# Altium footprint library 130020900#NIP_PD_电路板印制板.PcbLib: 105 footprints (part 7 of 7)
Each footprint in its own frame and in the unit in brackets; x right, y up, seen from the top. Pads: shape width x height; smd on the part's side, far side on the other; paste and mask are expansions set on the pad; w line width, h text height; cw(c..) or ccw(c..) is an arc to the next point about the centre after c.
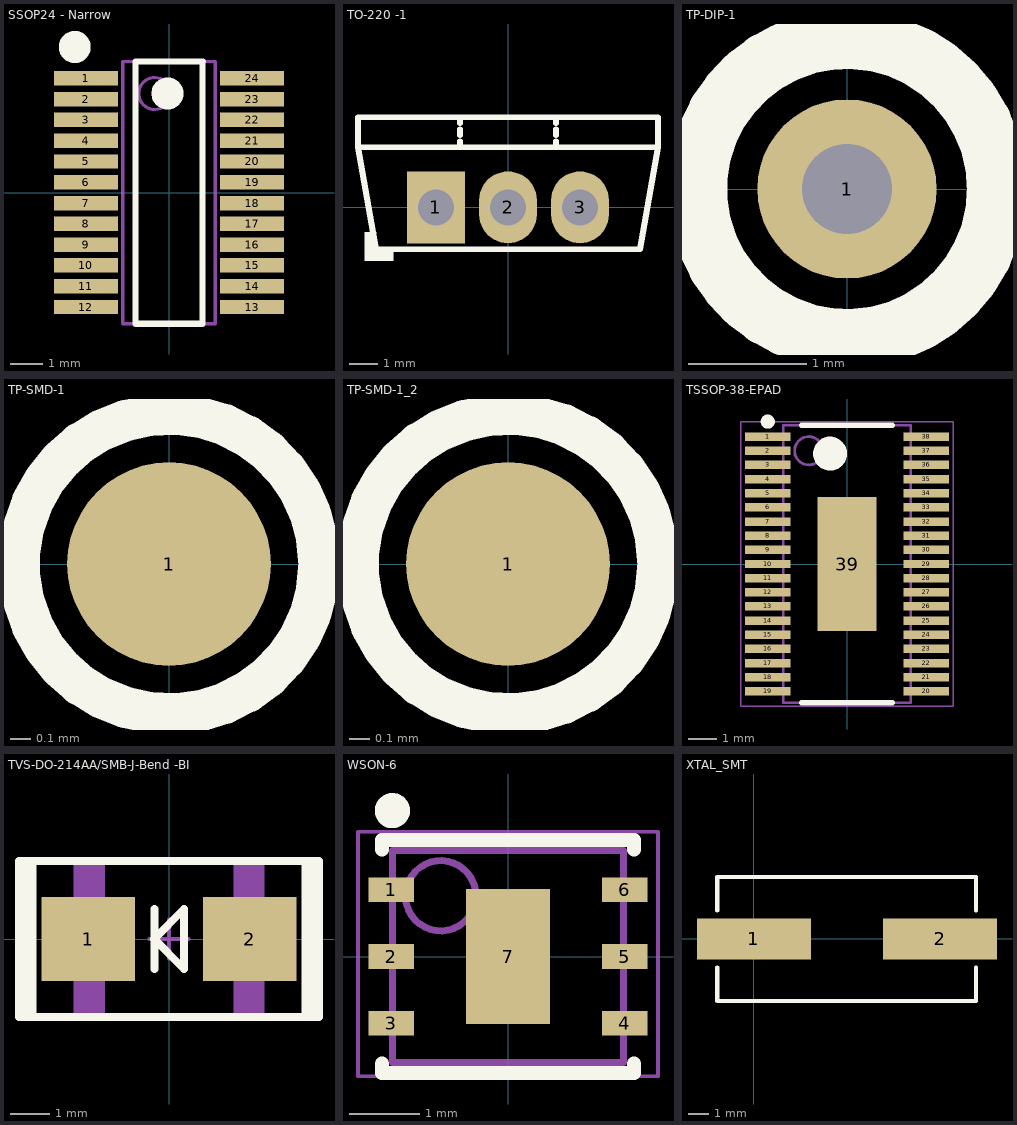
[diagram p6: the footprints below, top view; thin cyan lines are the x and y axes]

## SSOP24 - Narrow [mm]
pads (24):
  rect 2x0.45 smd: 1(-2.596,3.575) 2(-2.596,2.925) 3(-2.596,2.275) 4(-2.596,1.625) 5(-2.596,0.975) 6(-2.596,0.325) 7(-2.596,-0.325) 8(-2.596,-0.975) 9(-2.596,-1.625) 10(-2.596,-2.275) 11(-2.596,-2.925) 12(-2.596,-3.575) 13(2.596,-3.575) 14(2.596,-2.925) 15(2.596,-2.275) 16(2.596,-1.625) 17(2.596,-0.975) 18(2.596,-0.325) 19(2.596,0.325) 20(2.596,0.975) 21(2.596,1.625) 22(2.596,2.275) 23(2.596,2.925) 24(2.596,3.575)
Top Overlay:
  circle w0.5: c-2.946,4.554 r0.25
  circle w0.5: c-0.046,3.1 r0.25
  lines w0.2: 1.047,4.1 1.047,-4.1 -1.047,-4.1 -1.047,4.1 1.061,4.1
Mechanical 15:
  circle w0.1: c-0.446,3.1 r0.5
  lines w0.1: 1.442,4.1 -1.446,4.1 -1.446,-4.1 1.446,-4.1 1.446,4.1

## TO-220 -1 [mil]
pads (3):
  rect 80x100 hole 50: 1(-100,0)
  oval 80x100 hole 50: 2(0,0) 3(100,0)
Top Overlay:
  region: -199.08,-34.71 -199.08,-74.08 -159.71,-74.08 -159.71,-58.33 -183.33,-58.33 -183.33,-34.71
  lines w8: -66.67,83.33 -66.67,91.67 ; -66.67,100 -66.67,108.33 ; -66.67,116.67 -66.67,125 ; 66.67,83.33 66.67,91.67 ; 66.67,100 66.67,108.33 ; 66.67,116.67 66.67,125 ; -208.33,83.33 -208.33,125 208.33,125 208.33,83.33 ; -208.33,83.33 -183.33,-58.33 183.33,-58.33 208.33,83.33 ; -208.33,83.33 208.33,83.33

## TP-DIP-1 [mil]
pads (1):
  round 60 hole 30: 1(0,0)
Top Overlay:
  circle w20: c0,0 r50.2

## TP-SMD-1 [mm]
pads (1):
  round 1 smd: 1(0,0)
Top Overlay:
  circle w0.203: c0,0 r0.737

## TP-SMD-1_2 [mm]
pads (1):
  round 1 smd: 1(0,0)
Top Overlay:
  circle w0.203: c0,0 r0.737

## TSSOP-38-EPAD [mm] "TSSOP, 38-Leads, Body 9.70x4.40mm, Pitch 0.50mm, Thermal Pad 4.75.2x2.74.2mm, IPC Medium Density"
height 1.2
pads (39):
  rect 1.6x0.3 smd: 1(-2.8,4.5) 2(-2.8,4) 3(-2.8,3.5) 4(-2.8,3) 5(-2.8,2.5) 6(-2.8,2) 7(-2.8,1.5) 8(-2.8,1) 9(-2.8,0.5) 10(-2.8,0) 11(-2.8,-0.5) 12(-2.8,-1) 13(-2.8,-1.5) 14(-2.8,-2) 15(-2.8,-2.5) 16(-2.8,-3) 17(-2.8,-3.5) 18(-2.8,-4) 19(-2.8,-4.5) 20(2.8,-4.5) 21(2.8,-4) 22(2.8,-3.5) 23(2.8,-3) 24(2.8,-2.5) 25(2.8,-2) 26(2.8,-1.5) 27(2.8,-1) 28(2.8,-0.5) 29(2.8,0) 30(2.8,0.5) 31(2.8,1) 32(2.8,1.5) 33(2.8,2) 34(2.8,2.5) 35(2.8,3) 36(2.8,3.5) 37(2.8,4) 38(2.8,4.5)
  rect 2.1x4.75 smd: 39(0,0)
Top Overlay:
  circle w0.6: c-0.6,3.9 r0.3
  circle w0.25: c-2.8,5.029 r0.125
  lines w0.203: -1.6,-4.9 1.6,-4.9 ; -1.6,4.9 1.6,4.9
Mechanical 13:
  circle w0.1: c-1.35,4 r0.5
  lines w0.1: -2.25,-4.9 2.25,-4.9 2.25,4.9 -2.25,4.9 -2.25,-4.9
Mechanical 15:
  lines w0.05: -3.759,-5.029 3.759,-5.029 3.759,5.029 -3.759,5.029 -3.759,-5.029
  lines w0.1: -0.5,0 0.5,0 ; 0,-0.5 0,0.5
3D body: height 1.2, standoff 0.05, extent -2.25,-4.9 2.25,4.9

## TVS-DO-214AA/SMB-J-Bend -BI [mm] "Molded Diode, 2-Leads, Body 5.34x3.62mm, IPC Medium Density"
height 2.62
pads (2):
  rect 2.4x2.15 smd: 1(-2.075,0) 2(2.075,0)
Top Overlay:
  region: 3.5,2 3.85,2 3.85,-2 3.5,-2
  region: -3.85,2 -3.5,2 -3.5,-2 -3.85,-2
  lines w0.203: -3.5,-2 -3.5,2 ; -0.375,-0.765 -0.375,0.765 ; 3.5,-2 3.5,2 ; -3.85,-2 -3.85,2 3.85,2 3.85,-2 -3.85,-2 ; -0.38,0 0.38,0.765 0.38,-0.765 -0.38,0
Mechanical 13:
  rectangle: -2.4,-1.97 -1.648,1.97
  rectangle: 1.651,-1.97 2.403,1.97
  lines w0.1: -2.4,-1.97 -2.4,1.97 2.4,1.97 2.4,-1.97 -2.4,-1.97
Mechanical 15:
  lines w0.1: -0.5,0 0.5,0 ; 0,-0.5 0,0.5
3D body: height 2.62, standoff 0, extent -2.4,-1.97 2.4,1.97

## WSON-6 [mm] "WSON, 6-Leads, Body 3.24x2.92mm, Pitch 0.95mm, Thermal Pad 2.27x0.00mm, IPC Medium Density"
height 0.8
pads (7):
  rect 0.65x0.35 smd: 1(-1.66,0.95) 2(-1.66,0) 3(-1.66,-0.95) 4(1.66,-0.95) 5(1.66,0) 6(1.66,0.95)
  rect 1.2x1.92 smd: 7(0,0)
Top Overlay:
  circle w0.25: c-1.645,2.075 r0.125
  lines w0.2: -1.795,-1.525 -1.795,-1.66 0.152,-1.66 ; -1.795,1.525 -1.795,1.66 0.102,1.66 ; 0.1,-1.66 1.795,-1.66 1.795,-1.525 ; 0.1,1.66 1.795,1.66 1.795,1.525
Mechanical 13:
  circle w0.1: c-0.957,0.864 r0.5
  lines w0.1: -1.645,-1.51 1.645,-1.51 1.645,1.51 -1.645,1.51 -1.645,-1.51
Mechanical 15:
  lines w0.05: -2.134,-1.702 2.134,-1.702 2.134,1.778 -2.134,1.778 -2.134,-1.702
  lines w0.1: -0.5,0 0.5,0 ; 0,-0.5 0,0.5
3D body: height 0.8, standoff 0.2, extent -1.645,-1.51 1.645,1.51

## XTAL_SMT [mm]
pads (2):
  rect 5.5x2 smd: 1(0,0) 2(9,0)
Top Overlay:
  lines w0.203: -1.77,-1.377 -1.77,-3.003 10.73,-3.003 10.73,-1.377 ; -1.77,1.372 -1.77,2.997 ; 0.219,2.997 -1.77,2.997 ; 10.73,1.372 10.73,2.997 -1.77,2.997